# EAGLE library part 10_PINES (library Eagle_CAD_parts)
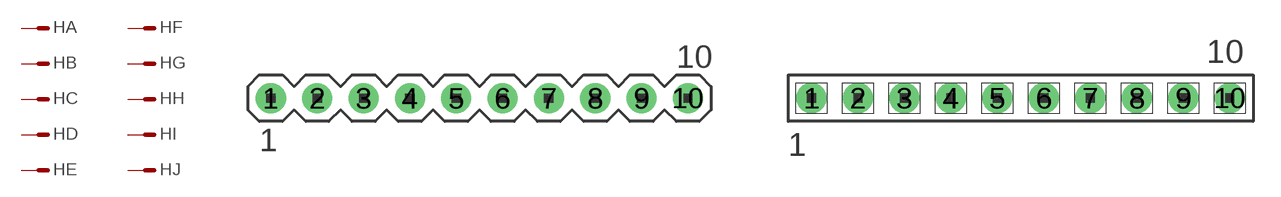
[diagram p58: symbol with the pads of 10_PINES; footprints 10_PINES, 10_PINES_F]

Designator prefix H; gates A=PIN_1 B=PIN_1 C=PIN_1 D=PIN_1 E=PIN_1 F=PIN_1 G=PIN_1 H=PIN_1 I=PIN_1 J=PIN_1

## 10_PINES_WR-PHD (DIGIKEY_PART_NUMBER: 732-2670-ND; I: 3 A; MANUFACTURER_PART_NUMBER: 61301011121; V: 250 V)  [10_PINES]
1  A:S  pas
2  B:S  pas
3  C:S  pas
4  D:S  pas
5  E:S  pas
6  F:S  pas
7  G:S  pas
8  H:S  pas
9  I:S  pas
10  J:S  pas

## 10_PINES_SCS_F (DIGIKEY_PART_NUMBER: S7043-ND; I: 3 A; MANUFACTURER_PART_NUMBER: PPPC101LFBN-RC; V: 250 V)  [10_PINES_F]
Pads as for 10_PINES

## 10_PINES_SCS_F_2 (DIGIKEY_PART_NUMBER: S7108-ND; I: 3 A; MANUFACTURER_PART_NUMBER: PPPC052LFBN-RC; V: 250 V)  [10_PINES_2F1C_F]
Pads as for 10_PINES

## 10_PINES_AMPHENOL (DIGIKEY_PART_NUMBER: 609-3410-ND; I: 3 A; MANUFACTURER_PART_NUMBER: 68021-210HLF)  [10_PINES_2F5C_ANG]
Pads as for 10_PINES

## Footprint 10_PINES (pad centres in mm)
drill 1.1: 1 -11.43,0; 2 -8.89,0; 3 -6.35,0; 4 -3.81,0; 5 -1.27,0; 6 1.27,0; 7 3.81,0; 8 6.35,0; 9 8.89,0; 10 11.43,0

## Footprint 10_PINES_F (pad centres in mm)
drill 1.1: 1 -11.43,0; 2 -8.89,0; 3 -6.35,0; 4 -3.81,0; 5 -1.27,0; 6 1.27,0; 7 3.81,0; 8 6.35,0; 9 8.89,0; 10 11.43,0

## Footprint 10_PINES_2F1C_F (pad centres in mm)
drill 1.1: 1 -5.08,1.27; 2 -2.54,1.27; 3 0,1.27; 4 2.54,1.27; 5 5.08,1.27; 6 -5.08,-1.27; 7 -2.54,-1.27; 8 0,-1.27; 9 2.54,-1.27; 10 5.08,-1.27

## Footprint 10_PINES_2F5C_ANG (pad centres in mm)
drill 1: 1 -5.08,-1.27; 2 -2.54,-1.27; 3 0,-1.27; 4 2.54,-1.27; 5 5.08,-1.27; 6 -5.08,1.27; 7 -2.54,1.27; 8 0,1.27; 9 2.54,1.27; 10 5.08,1.27